# Altium integrated library Infineon_Power_MOSFET.IntLib: 1448 symbols (part 2 of 47)
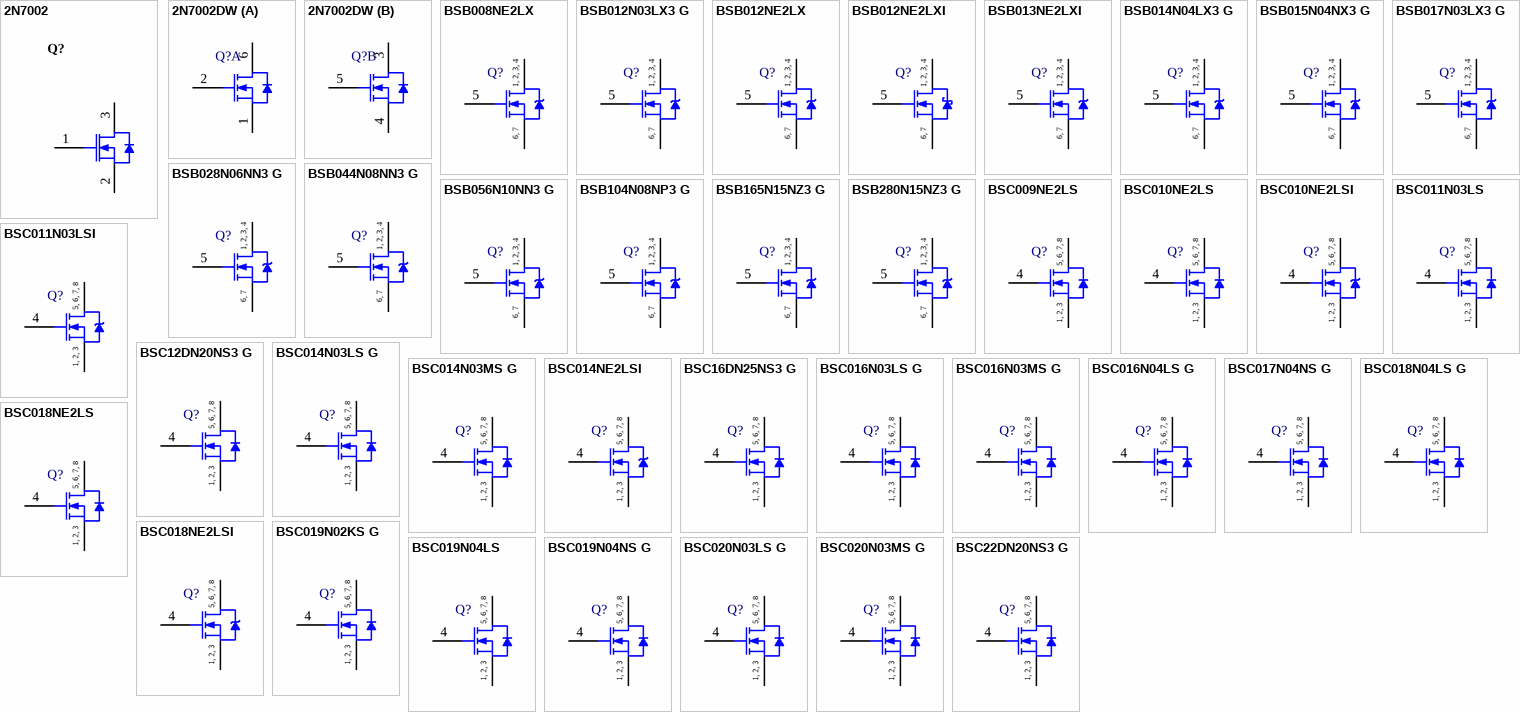
[diagram p38: symbols 2N7002 to BSC22DN20NS3 G]

## BSC018NE2LSI
designator Q?
N-Channel OptiMOS Power-MOSFET, 25 V VDS, 100 A ID, -55 to 150 degC, PG-TDSON-8-1, Reel, Green; Manufacturer: Infineon; PartNumber: BSC018NE2LSI; Green: TRUE; ID (max): 100 A; IDpuls (max): 400 A; Polarity: N; Ptot (max): 69 W; QG: 17 nC; RDS (on) (max): 1.8 mOhm; RDS (on) (max) (@4.5V): 2.4 mOhm; Rth: 1.8 K/W; RthJA (max): 50 K/W; VDS (max): 25 V; VGS(th) (max): 2.2 V; VGS(th) (min): 1 V; DatasheetVersion: Rev. 2.2; PackageReference: PG-TDSON-8-1; PackageDescription: 8-Pin Plastic (Green) Thin Dual Small Outline Non-Leaded Package, 5.15 x 5.9 mm Body, 1.27 mm Pitch; Supplier 1: Digi-Key; Supplier Part Number 1: BSC018NE2LSITR-ND; Supplier 2: Digi-Key; Supplier Part Number 2: BSC018NE2LSICT-ND; Supplier 3: Digi-Key; Supplier Part Number 3: BSC018NE2LSIDKR-ND; Halogen-free: TRUE; Packing: Reel; RthJC (max): 1.8 K/W; Mounting Technology: Surface Mount; ComponentLink1Description: Manufacturer URL; ComponentLink1URL: http://www.infineon.com/; ComponentLink2Description: Datasheet; ComponentLink2URL: http://www.infineon.com/dgdl/BSC018NE2LSI_Rev+2.2_.pdf?folderId=db3a304313b8b5a60113cee8763b02d7&fileId=db3a30433072cd8f013093b8abf971c2; ComponentLink3Description: Package Specification; ComponentLink3URL: http://www.infineon.com/cms/packages/SMD_-_Surface_Mounted_Devices/P-PG-TDSON/P-PG-TDSON-08-01x_2x_3.html?__locale=en
footprint INF-PG-TDSON-8-1_V (TDSON, 8-Leads, Body 6.15x5.15mm, Pitch 1.27mm)
pins: 1 SOURCE, 2 SOURCE, 3 SOURCE, 4 GATE, 5 DRAIN, 6 DRAIN, 7 DRAIN, 8 DRAIN
text: 5, 6, 7, 8; 1, 2, 3

## BSC019N02KS G
designator Q?
N-Channel OptiMOS 2 Power-Transistor, 20 V VDS, 100 A ID, -55 to 150 degC, PG-TDSON-8-1, Reel, Green; Manufacturer: Infineon; PartNumber: BSC019N02KS G; Green: TRUE; ID (max): 100 A; IDpuls (max): 200 A; Polarity: N; Ptot (max): 104 W; QG: 64 nC; RDS (on) (max): 1.95 mOhm; Rth: 1.2 K/W; RthJA (max): 45 K/W; VDS (max): 20 V; VGS(th) (max): 1.2 V; VGS(th) (min): 0.7 V; DatasheetVersion: Rev. 1.41; PackageReference: PG-TDSON-8-1; PackageDescription: 8-Pin Plastic (Green) Thin Dual Small Outline Non-Leaded Package, 5.15 x 5.9 mm Body, 1.27 mm Pitch; Supplier 1: Mouser; Supplier Part Number 1: 726-BSC019N02KSG; Supplier 2: Digi-Key; Supplier Part Number 2: BSC019N02KS G-ND; Halogen-free: TRUE; Packing: Reel; RDS (on) (max) (@4.5V): 1.95 mOhm; RthJC (max): 1.2 K/W; Mounting Technology: Surface Mount; ComponentLink1Description: Manufacturer URL; ComponentLink1URL: http://www.infineon.com/; ComponentLink2Description: Datasheet; ComponentLink2URL: http://www.infineon.com/dgdl/BSC019N02KS+G+Rev1.41.pdf?folderId=db3a3043163797a6011637c0dc9c0001&fileId=db3a3043163797a6011637c16cdf0002; ComponentLink3Description: Package Specification; ComponentLink3URL: http://www.infineon.com/cms/packages/SMD_-_Surface_Mounted_Devices/P-PG-TDSON/P-PG-TDSON-08-01x_2x_3.html?__locale=en
footprint INF-PG-TDSON-8-1_V (TDSON, 8-Leads, Body 6.15x5.15mm, Pitch 1.27mm)
pins: 1 SOURCE, 2 SOURCE, 3 SOURCE, 4 GATE, 5 DRAIN, 6 DRAIN, 7 DRAIN, 8 DRAIN
text: 5, 6, 7, 8; 1, 2, 3

## BSC019N04LS
designator Q?
N-Channel OptiMOS(TM) Power-MOSFET, 40 V VDS, 100 A ID, -55 to 150 degC, PG-TDSON-8, Reel, Green; Manufacturer: Infineon; PartNumber: BSC019N04LS; Green: TRUE; ID (max): 100 A; IDpuls (max): 400 A; Polarity: N; Ptot (max): 78 W; QG: 41 nc; RDS (on) (max): 1.9 mOhm; RDS (on) (max) (@4.5V): 2.7 mOhm; RthJA (max): 50 K/W; RthJC (max): 1.6 K/W; VDS (max): 40 V; VGS(th) (max): 2 V; VGS(th) (min): 1.2 V; DatasheetVersion: Rev. 2.0; PackageVersion: Rev. 04, 04/2013; PackageReference: PG-TDSON-8-04; PackageDescription: 8-Pin Plastic (Green) Thin Dual Small Outline Non-Leaded Package, 5.9 x 5.15 mm Body, 1.27 mm Pitch; Supplier 1: Mouser; Supplier Part Number 1: N/A; Halogen-free: TRUE; Mounting: SMD; Packing: Reel; Technology: OptiMOS(TM); Mounting Technology: Surface Mount; ComponentLink1Description: Manufacturer URL; ComponentLink1URL: http://www.infineon.com/; ComponentLink2Description: Datasheet; ComponentLink2URL: http://www.infineon.com/dgdl/BSC019N04LS_rev2.0.pdf?folderId=db3a304313b8b5a60113cee8763b02d7&fileId=db3a304342371bb001424b8aca0c6fc4; ComponentLink3Description: Package Specification; ComponentLink3URL: http://www.infineon.com/dgdl/BSC019N04LS_rev2.0.pdf?folderId=db3a304313b8b5a60113cee8763b02d7&fileId=db3a304342371bb001424b8aca0c6fc4
footprint INF-PG-TDSON-8-04_V (SON, 8-Leads, Body 5.9x5.15mm, Pitch 1.27mm)
pins: 1 SOURCE, 2 SOURCE, 3 SOURCE, 4 GATE, 5 DRAIN, 6 DRAIN, 7 DRAIN, 8 DRAIN
text: 5, 6, 7, 8; 1, 2, 3

## BSC019N04NS G
designator Q?
N-Channel OptiMOS 3 Power-Transistor, 40 V VDS, 100 A ID, -55 to 150 degC, PG-TDSON-8-1, Reel, Green; Manufacturer: Infineon; PartNumber: BSC019N04NS G; Green: TRUE; ID (max): 100 A; IDpuls (max): 400 A; Polarity: N; Ptot (max): 125 W; QG: 84 nC; RDS (on) (max): 1.9 mOhm; Rth: 1 K/W; RthJA (max): 50 K/W; VDS (max): 40 V; VGS(th) (max): 4 V; VGS(th) (min): 2 V; DatasheetVersion: Rev. 1.4; PackageReference: PG-TDSON-8-1; PackageDescription: 8-Pin Plastic (Green) Thin Dual Small Outline Non-Leaded Package, 5.15 x 5.9 mm Body, 1.27 mm Pitch; Supplier 1: Mouser; Supplier Part Number 1: 726-BSC019N04NSG; Supplier 2: Digi-Key; Supplier Part Number 2: BSC019N04NS GTR-ND; Supplier 3: Digi-Key; Supplier Part Number 3: BSC019N04NS GCT-ND; Supplier 4: Digi-Key; Supplier Part Number 4: BSC019N04NS GDKR-ND; Halogen-free: TRUE; Packing: Reel; RthJC (max): 1 K/W; Mounting Technology: Surface Mount; ComponentLink1Description: Manufacturer URL; ComponentLink1URL: http://www.infineon.com/; ComponentLink2Description: Datasheet; ComponentLink2URL: http://www.infineon.com/dgdl/BSC019N04NSG_rev1.4.pdf?folderId=db3a3043156fd5730115c7d50620107c&fileId=db3a30431689f4420116c45be78a0832; ComponentLink3Description: Package Specification; ComponentLink3URL: http://www.infineon.com/cms/packages/SMD_-_Surface_Mounted_Devices/P-PG-TDSON/P-PG-TDSON-08-01x_2x_3.html?__locale=en
footprint INF-PG-TDSON-8-1_V (TDSON, 8-Leads, Body 6.15x5.15mm, Pitch 1.27mm)
pins: 1 SOURCE, 2 SOURCE, 3 SOURCE, 4 GATE, 5 DRAIN, 6 DRAIN, 7 DRAIN, 8 DRAIN
text: 5, 6, 7, 8; 1, 2, 3

## BSC020N03LS G
designator Q?
N-Channel OptiMOS 3 Power-MOSFET, 30 V VDS, 100 A ID, -55 to 150 degC, PG-TDSON-8-1, Reel, Green; Manufacturer: Infineon; PartNumber: BSC020N03LS G; Green: TRUE; ID (max): 100 A; IDpuls (max): 400 A; Polarity: N; Ptot (max): 96 W; QG: 34 nC; RDS (on) (max): 2 mOhm; RDS (on) (max) (@4.5V): 2.9 mOhm; Rth: 1.3 K/W; RthJA (max): 50 K/W; VDS (max): 30 V; VGS(th) (max): 2.2 V; VGS(th) (min): 1 V; DatasheetVersion: Rev. 1.27; PackageReference: PG-TDSON-8-1; PackageDescription: 8-Pin Plastic (Green) Thin Dual Small Outline Non-Leaded Package, 5.15 x 5.9 mm Body, 1.27 mm Pitch; Supplier 1: Mouser; Supplier Part Number 1: 726-BSC020N03LSG; Supplier 2: Digi-Key; Supplier Part Number 2: BSC020N03LS GTR-ND; Supplier 3: Digi-Key; Supplier Part Number 3: BSC020N03LS GCT-ND; Supplier 4: Digi-Key; Supplier Part Number 4: BSC020N03LS GDKR-ND; Halogen-free: TRUE; Packing: Reel; RthJC (max): 1.3 K/W; Mounting Technology: Surface Mount; ComponentLink1Description: Manufacturer URL; ComponentLink1URL: http://www.infineon.com/; ComponentLink2Description: Datasheet; ComponentLink2URL: http://www.infineon.com/dgdl/BSC020N03LS_rev1.27.pdf?folderId=db3a304412b407950112b408e8c90004&fileId=db3a304412b407950112b427641b3c1f; ComponentLink3Description: Package Specification; ComponentLink3URL: http://www.infineon.com/cms/packages/SMD_-_Surface_Mounted_Devices/P-PG-TDSON/P-PG-TDSON-08-01x_2x_3.html?__locale=en
footprint INF-PG-TDSON-8-1_V (TDSON, 8-Leads, Body 6.15x5.15mm, Pitch 1.27mm)
pins: 1 SOURCE, 2 SOURCE, 3 SOURCE, 4 GATE, 5 DRAIN, 6 DRAIN, 7 DRAIN, 8 DRAIN
text: 5, 6, 7, 8; 1, 2, 3

## BSC020N03MS G
designator Q?
N-Channel OptiMOS 3 M-Series Power-MOSFET, 30 V VDS, 100 A ID, -55 to 150 degC, PG-TDSON-8-1, Reel, Green; Manufacturer: Infineon; PartNumber: BSC020N03MS G; Green: TRUE; ID (max): 100 A; IDpuls (max): 400 A; Polarity: N; Ptot (max): 96 W; QG: 45 nC; RDS (on) (max): 2 mOhm; RDS (on) (max) (@4.5V): 2.5 mOhm; Rth: 1.3 K/W; RthJA (max): 50 K/W; VDS (max): 30 V; VGS(th) (max): 2 V; VGS(th) (min): 1 V; DatasheetVersion: Rev. 1.16; PackageReference: PG-TDSON-8-1; PackageDescription: 8-Pin Plastic (Green) Thin Dual Small Outline Non-Leaded Package, 5.15 x 5.9 mm Body, 1.27 mm Pitch; Supplier 1: Mouser; Supplier Part Number 1: 726-BSC020N03MSG; Supplier 2: Newark; Supplier Part Number 2: 60R2480; Supplier 3: Farnell; Supplier Part Number 3: 1775430; Supplier 4: Digi-Key; Supplier Part Number 4: BSC020N03MSGINTR-ND; Supplier 5: Digi-Key; Supplier Part Number 5: BSC020N03MSGINCT-ND; Supplier 6: Digi-Key; Supplier Part Number 6: BSC020N03MSGINDKR-ND; Halogen-free: TRUE; Packing: Reel; RthJC (max): 1.3 K/W; Mounting Technology: Surface Mount; ComponentLink1Description: Manufacturer URL; ComponentLink1URL: http://www.infineon.com/; ComponentLink2Description: Datasheet; ComponentLink2URL: http://www.infineon.com/dgdl/BSC020N03MSG_rev1.16.pdf?folderId=db3a304313d846880113d91d60c500c4&fileId=db3a304313d846880113de4cd99d033e; ComponentLink3Description: Package Specification; ComponentLink3URL: http://www.infineon.com/cms/packages/SMD_-_Surface_Mounted_Devices/P-PG-TDSON/P-PG-TDSON-08-01x_2x_3.html?__locale=en
footprint INF-PG-TDSON-8-1_V (TDSON, 8-Leads, Body 6.15x5.15mm, Pitch 1.27mm)
pins: 1 SOURCE, 2 SOURCE, 3 SOURCE, 4 GATE, 5 DRAIN, 6 DRAIN, 7 DRAIN, 8 DRAIN
text: 5, 6, 7, 8; 1, 2, 3

## BSC22DN20NS3 G
designator Q?
N-Channel OptiMOS 3 Power-Transistor, 200 V VDS, 7 A ID, -55 to 150 degC, PG-TDSON-8-1, Reel, Green; Manufacturer: Infineon; PartNumber: BSC22DN20NS3 G; Green: TRUE; ID (max): 7 A; IDpuls (max): 28 A; Polarity: N; Ptot (max): 34 W; QG: 4.2 nC; RDS (on) (max): 225 mOhm; Rth: 3.7 K/W; RthJA (max): 50 K/W; RthJC (max): 3.7 K/W; VDS (max): 200 V; VGS(th) (max): 4 V; VGS(th) (min): 2 V; DatasheetVersion: Rev. 2.2; PackageReference: PG-TDSON-8-1; PackageDescription: 8-Pin Plastic (Green) Thin Dual Small Outline Non-Leaded Package, 5.15 x 5.9 mm Body, 1.27 mm Pitch; Supplier 1: Mouser; Supplier Part Number 1: 726-BSC22DN20NS3G; Supplier 2: Digi-Key; Supplier Part Number 2: BSC22DN20NS3 GTR-ND; Supplier 3: Digi-Key; Supplier Part Number 3: BSC22DN20NS3 GCT-ND; Supplier 4: Digi-Key; Supplier Part Number 4: BSC22DN20NS3 GDKR-ND; Halogen-free: TRUE; Packing: Reel; Mounting Technology: Surface Mount; ComponentLink1Description: Manufacturer URL; ComponentLink1URL: http://www.infineon.com/; ComponentLink2Description: Datasheet; ComponentLink2URL: http://www.infineon.com/dgdl/BSC22DN20NS3+Rev2.2.pdf?folderId=db3a304325305e6d012596c6ca7b290a&fileId=db3a30432ad629a6012b1582d2df1a48; ComponentLink3Description: Package Specification; ComponentLink3URL: http://www.infineon.com/cms/packages/SMD_-_Surface_Mounted_Devices/P-PG-TDSON/P-PG-TDSON-08-01x_2x_3.html?__locale=en
footprint INF-PG-TDSON-8-1_V (TDSON, 8-Leads, Body 6.15x5.15mm, Pitch 1.27mm)
pins: 1 SOURCE, 2 SOURCE, 3 SOURCE, 4 GATE, 5 DRAIN, 6 DRAIN, 7 DRAIN, 8 DRAIN
text: 5, 6, 7, 8; 1, 2, 3

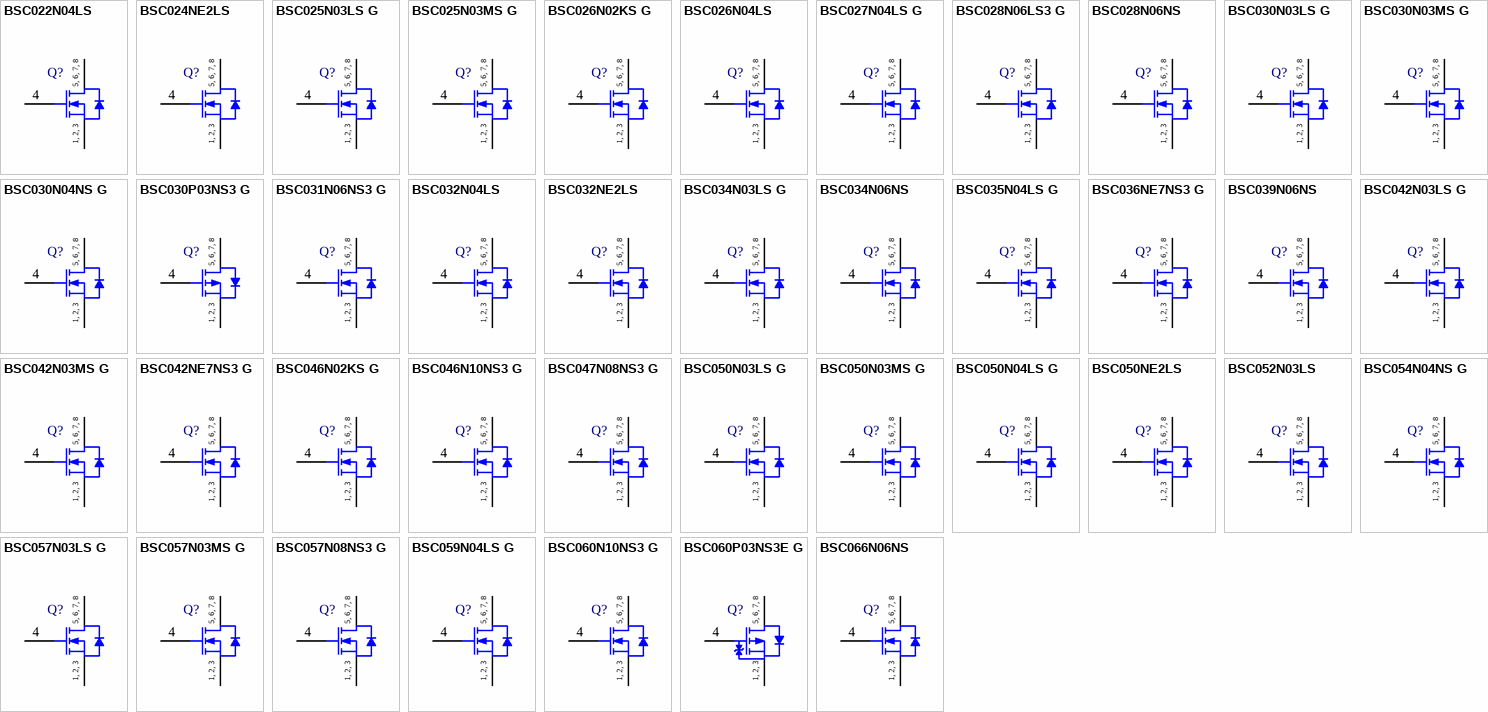
[diagram p1: symbols BSC022N04LS to BSC066N06NS]

## BSC022N04LS
designator Q?
N-Channel OptiMOS(TM) Power-MOSFET, 40 V VDS, 100 A ID, -55 to 150 degC, PG-TDSON-8, Reel, Green; Manufacturer: Infineon; PartNumber: BSC022N04LS; Green: TRUE; ID (max): 100 A; IDpuls (max): 400 A; Polarity: N; Ptot (max): 69 W; QG: 37 nc; RDS (on) (max): 2.2 mOhm; RDS (on) (max) (@4.5V): 3.2 mOhm; RthJA (max): 50 K/W; RthJC (max): 1.8 K/W; VDS (max): 40 V; VGS(th) (max): 2 V; VGS(th) (min): 1.2 V; DatasheetVersion: Rev. 2.0; PackageReference: PG-TDSON-8-1; PackageDescription: 8-Pin Plastic (Green) Thin Dual Small Outline Non-Leaded Package, 5.15 x 5.9 mm Body, 1.27 mm Pitch; Supplier 1: Mouser; Supplier Part Number 1: N/A; Halogen-free: TRUE; Mounting: SMD; Packing: Reel; Technology: OptiMOS(TM); Mounting Technology: Surface Mount; ComponentLink1Description: Manufacturer URL; ComponentLink1URL: http://www.infineon.com/; ComponentLink2Description: Datasheet; ComponentLink2URL: http://www.infineon.com/dgdl/BSC022N04LS_rev2.0.pdf?folderId=db3a3043163797a6011637d4bae7003b&fileId=db3a30433e82b1cf013e8454ca6c03c9; ComponentLink3Description: Package Specification; ComponentLink3URL: http://www.infineon.com/cms/packages/SMD_-_Surface_Mounted_Devices/P-PG-TDSON/P-PG-TDSON-08-01x_2x_3.html?__locale=en
footprint INF-PG-TDSON-8-1_V (TDSON, 8-Leads, Body 6.15x5.15mm, Pitch 1.27mm)
pins: 1 SOURCE, 2 SOURCE, 3 SOURCE, 4 GATE, 5 DRAIN, 6 DRAIN, 7 DRAIN, 8 DRAIN
text: 5, 6, 7, 8; 1, 2, 3

## BSC024NE2LS
designator Q?
N-Channel OptiMOS Power-MOSFET, 25 V VDS, 100 A ID, -55 to 150 degC, PG-TDSON-8-1, Reel, Green; Manufacturer: Infineon; PartNumber: BSC024NE2LS; Green: TRUE; ID (max): 100 A; IDpuls (max): 400 A; Polarity: N; Ptot (max): 48 W; QG: 23 nC; RDS (on) (max): 2.4 mOhm; RDS (on) (max) (@4.5V): 3.4 mOhm; Rth: 2.6 K/W; RthJA (max): 50 K/W; RthJC (max): 2.6 K/W; VDS (max): 25 V; VGS(th) (max): 2 V; VGS(th) (min): 1.2 V; DatasheetVersion: Rev. 2.1; PackageReference: PG-TDSON-8-1; PackageDescription: 8-Pin Plastic (Green) Thin Dual Small Outline Non-Leaded Package, 5.15 x 5.9 mm Body, 1.27 mm Pitch; Supplier 1: Mouser; Supplier Part Number 1: 726-BSC024NE2LS; Supplier 2: Digi-Key; Supplier Part Number 2: BSC024NE2LSTR-ND; Supplier 3: Digi-Key; Supplier Part Number 3: BSC024NE2LSCT-ND; Supplier 4: Digi-Key; Supplier Part Number 4: BSC024NE2LSDKR-ND; Halogen-free: TRUE; Packing: Reel; Mounting Technology: Surface Mount; ComponentLink1Description: Manufacturer URL; ComponentLink1URL: http://www.infineon.com/; ComponentLink2Description: Datasheet; ComponentLink2URL: http://www.infineon.com/dgdl/BSC024NE2LS_Rev+2.1.pdf?folderId=db3a304313b8b5a60113cee8763b02d7&fileId=db3a30432c64a60d012ca76f4fe52f6b; ComponentLink3Description: Package Specification; ComponentLink3URL: http://www.infineon.com/cms/packages/SMD_-_Surface_Mounted_Devices/P-PG-TDSON/P-PG-TDSON-08-01x_2x_3.html?__locale=en
footprint INF-PG-TDSON-8-1_V (TDSON, 8-Leads, Body 6.15x5.15mm, Pitch 1.27mm)
pins: 1 SOURCE, 2 SOURCE, 3 SOURCE, 4 GATE, 5 DRAIN, 6 DRAIN, 7 DRAIN, 8 DRAIN
text: 5, 6, 7, 8; 1, 2, 3

## BSC025N03LS G
designator Q?
N-Channel OptiMOS 3 Power-MOSFET, 30 V VDS, 100 A ID, -55 to 150 degC, PG-TDSON-8-1, Reel, Green; Manufacturer: Infineon; PartNumber: BSC025N03LS G; Green: TRUE; ID (max): 100 A; IDpuls (max): 400 A; Polarity: N; Ptot (max): 83 W; QG: 27 nC; RDS (on) (max): 2.5 mOhm; RDS (on) (max) (@4.5V): 3.6 mOhm; Rth: 1.5 K/W; RthJA (max): 50 K/W; VDS (max): 30 V; VGS(th) (max): 2.2 V; VGS(th) (min): 1 V; DatasheetVersion: Rev. 1.6; PackageReference: PG-TDSON-8-1; PackageDescription: 8-Pin Plastic (Green) Thin Dual Small Outline Non-Leaded Package, 5.15 x 5.9 mm Body, 1.27 mm Pitch; Supplier 1: Mouser; Supplier Part Number 1: 726-BSC025N03LSG; Supplier 2: Newark; Supplier Part Number 2: 47W3308; Supplier 3: Farnell; Supplier Part Number 3: 2212826; Supplier 4: Digi-Key; Supplier Part Number 4: BSC025N03LSGINTR-ND; Supplier 5: Digi-Key; Supplier Part Number 5: BSC025N03LSGINCT-ND; Supplier 6: Digi-Key; Supplier Part Number 6: BSC025N03LSGINDKR-ND; Halogen-free: TRUE; Packing: Reel; RthJC (max): 1.5 K/W; Mounting Technology: Surface Mount; ComponentLink1Description: Manufacturer URL; ComponentLink1URL: http://www.infineon.com/; ComponentLink2Description: Datasheet; ComponentLink2URL: http://www.infineon.com/dgdl/BSC025N03LS_rev1.6.pdf?folderId=db3a304412b407950112b408e8c90004&fileId=db3a304412b407950112b4274ff53bff; ComponentLink3Description: Package Specification; ComponentLink3URL: http://www.infineon.com/cms/packages/SMD_-_Surface_Mounted_Devices/P-PG-TDSON/P-PG-TDSON-08-01x_2x_3.html?__locale=en
footprint INF-PG-TDSON-8-1_V (TDSON, 8-Leads, Body 6.15x5.15mm, Pitch 1.27mm)
pins: 1 SOURCE, 2 SOURCE, 3 SOURCE, 4 GATE, 5 DRAIN, 6 DRAIN, 7 DRAIN, 8 DRAIN
text: 5, 6, 7, 8; 1, 2, 3

## BSC025N03MS G
designator Q?
N-Channel OptiMOS 3 M-Series Power-MOSFET, 30 V VDS, 100 A ID, -55 to 150 degC, PG-TDSON-8-1, Reel, Green; Manufacturer: Infineon; PartNumber: BSC025N03MS G; Green: TRUE; ID (max): 100 A; IDpuls (max): 400 A; Polarity: N; Ptot (max): 83 W; QG: 36 nC; RDS (on) (max): 2.5 mOhm; RDS (on) (max) (@4.5V): 3 mOhm; Rth: 1.5 K/W; RthJA (max): 50 K/W; VDS (max): 30 V; VGS(th) (max): 2 V; VGS(th) (min): 1 V; DatasheetVersion: Rev. 1.15; PackageReference: PG-TDSON-8-1; PackageDescription: 8-Pin Plastic (Green) Thin Dual Small Outline Non-Leaded Package, 5.15 x 5.9 mm Body, 1.27 mm Pitch; Supplier 1: Mouser; Supplier Part Number 1: 726-BSC025N03MSG; Supplier 2: Newark; Supplier Part Number 2: 60R2482; Supplier 3: Farnell; Supplier Part Number 3: 1775433; Supplier 4: Digi-Key; Supplier Part Number 4: BSC025N03MSGINTR-ND; Supplier 5: Digi-Key; Supplier Part Number 5: BSC025N03MSGINCT-ND; Supplier 6: Digi-Key; Supplier Part Number 6: BSC025N03MSGINDKR-ND; Halogen-free: TRUE; Packing: Reel; RthJC (max): 1.5 K/W; Mounting Technology: Surface Mount; ComponentLink1Description: Manufacturer URL; ComponentLink1URL: http://www.infineon.com/; ComponentLink2Description: Datasheet; ComponentLink2URL: http://www.infineon.com/dgdl/BSC025N03MSG_rev1.15.pdf?folderId=db3a304313d846880113d91d60c500c4&fileId=db3a304313d846880113de52b02d034c; ComponentLink3Description: Package Specification; ComponentLink3URL: http://www.infineon.com/cms/packages/SMD_-_Surface_Mounted_Devices/P-PG-TDSON/P-PG-TDSON-08-01x_2x_3.html?__locale=en
footprint INF-PG-TDSON-8-1_V (TDSON, 8-Leads, Body 6.15x5.15mm, Pitch 1.27mm)
pins: 1 SOURCE, 2 SOURCE, 3 SOURCE, 4 GATE, 5 DRAIN, 6 DRAIN, 7 DRAIN, 8 DRAIN
text: 5, 6, 7, 8; 1, 2, 3

## BSC026N02KS G
designator Q?
N-Channel OptiMOS 2 Power-Transistor, 20 V VDS, 100 A ID, -55 to 150 degC, PG-TDSON-8-1, Reel, Green; Manufacturer: Infineon; PartNumber: BSC026N02KS G; Green: TRUE; ID (max): 100 A; IDpuls (max): 200 A; Polarity: N; Ptot (max): 78 W; QG: 40 nC; RDS (on) (max): 2.6 mOhm; Rth: 1.6 K/W; RthJA (max): 62 K/W; VDS (max): 20 V; VGS(th) (max): 1.2 V; VGS(th) (min): 0.7 V; DatasheetVersion: Rev. 1.06; PackageReference: PG-TDSON-8-1; PackageDescription: 8-Pin Plastic (Green) Thin Dual Small Outline Non-Leaded Package, 5.15 x 5.9 mm Body, 1.27 mm Pitch; Supplier 1: Mouser; Supplier Part Number 1: 726-BSC026N02KSG; Supplier 2: Newark; Supplier Part Number 2: 60R2483; Supplier 3: Farnell; Supplier Part Number 3: 1775434; Supplier 4: Digi-Key; Supplier Part Number 4: BSC026N02KS GTR-ND; Supplier 5: Digi-Key; Supplier Part Number 5: BSC026N02KS GCT-ND; Supplier 6: Digi-Key; Supplier Part Number 6: BSC026N02KS GDKR-ND; Halogen-free: TRUE; Packing: Reel; RDS (on) (max) (@4.5V): 2.6 mOhm; RthJC (max): 1.6 K/W; Mounting Technology: Surface Mount; ComponentLink1Description: Manufacturer URL; ComponentLink1URL: http://www.infineon.com/; ComponentLink2Description: Datasheet; ComponentLink2URL: http://www.infineon.com/dgdl/BSC026N02KS+G+Rev16.pdf?folderId=db3a3043163797a6011637c252b10018&fileId=db3a3043163797a6011637c2a4280019; ComponentLink3Description: Package Specification; ComponentLink3URL: http://www.infineon.com/cms/packages/SMD_-_Surface_Mounted_Devices/P-PG-TDSON/P-PG-TDSON-08-01x_2x_3.html?__locale=en
footprint INF-PG-TDSON-8-1_V (TDSON, 8-Leads, Body 6.15x5.15mm, Pitch 1.27mm)
pins: 1 SOURCE, 2 SOURCE, 3 SOURCE, 4 GATE, 5 DRAIN, 6 DRAIN, 7 DRAIN, 8 DRAIN
text: 5, 6, 7, 8; 1, 2, 3

## BSC026N04LS
designator Q?
N-Channel OptiMOS(TM) Power-MOSFET, 40 V VDS, 100 A ID, -55 to 150 degC, PG-TDSON-8, Reel, Green; Manufacturer: Infineon; PartNumber: BSC026N04LS; Green: TRUE; ID (max): 100 A; IDpuls (max): 400 A; Polarity: N; Ptot (max): 63 W; QG: 32 nc; RDS (on) (max): 2.6 mOhm; RDS (on) (max) (@4.5V): 3.6 mOhm; RthJA (max): 50 K/W; RthJC (max): 2 K/W; VDS (max): 40 V; VGS(th) (max): 2 V; VGS(th) (min): 1.2 V; DatasheetVersion: Rev. 2.0; PackageReference: PG-TDSON-8-1; PackageDescription: 8-Pin Plastic (Green) Thin Dual Small Outline Non-Leaded Package, 5.15 x 5.9 mm Body, 1.27 mm Pitch; Supplier 1: Mouser; Supplier Part Number 1: N/A; Halogen-free: TRUE; Mounting: SMD; Packing: Reel; Technology: OptiMOS(TM); Mounting Technology: Surface Mount; ComponentLink1Description: Manufacturer URL; ComponentLink1URL: http://www.infineon.com/; ComponentLink2Description: Datasheet; ComponentLink2URL: http://www.infineon.com/dgdl/BSC026N04LS_rev2.0.pdf?folderId=db3a304313b8b5a60113cee8763b02d7&fileId=db3a3043410d6ee40141127f49e92b5d; ComponentLink3Description: Package Specification; ComponentLink3URL: http://www.infineon.com/cms/packages/SMD_-_Surface_Mounted_Devices/P-PG-TDSON/P-PG-TDSON-08-01x_2x_3.html?__locale=en
footprint INF-PG-TDSON-8-1_V (TDSON, 8-Leads, Body 6.15x5.15mm, Pitch 1.27mm)
pins: 1 SOURCE, 2 SOURCE, 3 SOURCE, 4 GATE, 5 DRAIN, 6 DRAIN, 7 DRAIN, 8 DRAIN
text: 5, 6, 7, 8; 1, 2, 3

## BSC027N04LS G
designator Q?
N-Channel OptiMOS 3 Power-Transistor, 40 V VDS, 100 A ID, -55 to 150 degC, PG-TDSON-8-1, Reel, Green; Manufacturer: Infineon; PartNumber: BSC027N04LS G; Green: TRUE; ID (max): 100 A; IDpuls (max): 400 A; Polarity: N; Ptot (max): 83 W; QG: 31 nC; RDS (on) (max): 2.7 mOhm; RDS (on) (max) (@4.5V): 4.1 mOhm; Rth: 1.5 K/W; RthJA (max): 50 K/W; VDS (max): 40 V; VGS(th) (max): 2 V; VGS(th) (min): 1.2 V; DatasheetVersion: Rev. 1.04; PackageReference: PG-TDSON-8-1; PackageDescription: 8-Pin Plastic (Green) Thin Dual Small Outline Non-Leaded Package, 5.15 x 5.9 mm Body, 1.27 mm Pitch; Supplier 1: Mouser; Supplier Part Number 1: 726-BSC027N04LSG; Supplier 2: Farnell; Supplier Part Number 2: 1775435; Supplier 3: Digi-Key; Supplier Part Number 3: BSC027N04LS GTR-ND; Supplier 4: Digi-Key; Supplier Part Number 4: BSC027N04LS GCT-ND; Supplier 5: Digi-Key; Supplier Part Number 5: BSC027N04LS GDKR-ND; Halogen-free: TRUE; Packing: Reel; RthJC (max): 1.5 K/W; Mounting Technology: Surface Mount; ComponentLink1Description: Manufacturer URL; ComponentLink1URL: http://www.infineon.com/; ComponentLink2Description: Datasheet; ComponentLink2URL: http://www.infineon.com/dgdl/BSC027N04LSG_rev14.pdf?folderId=db3a3043156fd5730115c7d50620107c&fileId=db3a30431689f4420116c4323646080c; ComponentLink3Description: Package Specification; ComponentLink3URL: http://www.infineon.com/cms/packages/SMD_-_Surface_Mounted_Devices/P-PG-TDSON/P-PG-TDSON-08-01x_2x_3.html?__locale=en
footprint INF-PG-TDSON-8-1_V (TDSON, 8-Leads, Body 6.15x5.15mm, Pitch 1.27mm)
pins: 1 SOURCE, 2 SOURCE, 3 SOURCE, 4 GATE, 5 DRAIN, 6 DRAIN, 7 DRAIN, 8 DRAIN
text: 5, 6, 7, 8; 1, 2, 3

## BSC028N06LS3 G
designator Q?
N-Channel OptiMOS 3 Power-Transistor, 60 V VDS, 100 A ID, -55 to 150 degC, PG-TDSON-8-1, Reel, Green; Manufacturer: Infineon; PartNumber: BSC028N06LS3 G; Green: TRUE; ID (max): 100 A; IDpuls (max): 400 A; Polarity: N; Ptot (max): 139 W; QG: 59 nC; RDS (on) (max): 2.8 mOhm; RDS (on) (max) (@4.5V): 4.8 mOhm; Rth: 0.9 K/W; RthJA (max): 62 K/W; VDS (max): 60 V; VGS(th) (max): 2.2 V; VGS(th) (min): 1.2 V; DatasheetVersion: Rev. 2.2; PackageReference: PG-TDSON-8-1; PackageDescription: 8-Pin Plastic (Green) Thin Dual Small Outline Non-Leaded Package, 5.15 x 5.9 mm Body, 1.27 mm Pitch; Supplier 1: Mouser; Supplier Part Number 1: 726-BSC028N06LS3G; Supplier 2: Newark; Supplier Part Number 2: 79X1328; Supplier 3: Farnell; Supplier Part Number 3: 2432703; Supplier 4: Digi-Key; Supplier Part Number 4: BSC028N06LS3 GTR-ND; Supplier 5: Digi-Key; Supplier Part Number 5: BSC028N06LS3 GCT-ND; Supplier 6: Digi-Key; Supplier Part Number 6: BSC028N06LS3 GDKR-ND; Halogen-free: TRUE; Packing: Reel; RthJC (max): 0.9 K/W; Mounting Technology: Surface Mount; ComponentLink1Description: Manufacturer URL; ComponentLink1URL: http://www.infineon.com/; ComponentLink2Description: Datasheet; ComponentLink2URL: http://www.infineon.com/dgdl/BSC028N06LS3_rev2.2.pdf?folderId=db3a30431ddc9372011ebafa04517f8b&fileId=db3a30431ddc9372011ebafa4c607f8c; ComponentLink3Description: Package Specification; ComponentLink3URL: http://www.infineon.com/cms/packages/SMD_-_Surface_Mounted_Devices/P-PG-TDSON/P-PG-TDSON-08-01x_2x_3.html?__locale=en
footprint INF-PG-TDSON-8-1_V (TDSON, 8-Leads, Body 6.15x5.15mm, Pitch 1.27mm)
pins: 1 SOURCE, 2 SOURCE, 3 SOURCE, 4 GATE, 5 DRAIN, 6 DRAIN, 7 DRAIN, 8 DRAIN
text: 5, 6, 7, 8; 1, 2, 3

## BSC028N06NS
designator Q?
N-Channel OptiMOS Power-Transistor, 60 V VDS, 100 A ID, -55 to 150 degC, PG-TDSON-8-1, Reel, Green; Manufacturer: Infineon; PartNumber: BSC028N06NS; Green: TRUE; ID (max): 100 A; IDpuls (max): 400 A; Polarity: N; Ptot (max): 83 W; QG: 37 nC; RDS (on) (max): 2.8 mOhm; Rth: 1.5 K/W; RthJA (max): 50 K/W; VDS (max): 60 V; VGS(th) (max): 3.3 V; VGS(th) (min): 2.1 V; DatasheetVersion: Rev. 2.1; PackageReference: PG-TDSON-8-1; PackageDescription: 8-Pin Plastic (Green) Thin Dual Small Outline Non-Leaded Package, 5.15 x 5.9 mm Body, 1.27 mm Pitch; Supplier 1: Newark; Supplier Part Number 1: 79X1329; Supplier 2: Farnell; Supplier Part Number 2: 2432704; Supplier 3: Digi-Key; Supplier Part Number 3: BSC028N06NSTR-ND; Supplier 4: Digi-Key; Supplier Part Number 4: BSC028N06NSCT-ND; Supplier 5: Digi-Key; Supplier Part Number 5: BSC028N06NSDKR-ND; Halogen-free: TRUE; Packing: Reel; RthJC (max): 1.5 K/W; Mounting Technology: Surface Mount; ComponentLink1Description: Manufacturer URL; ComponentLink1URL: http://www.infineon.com/; ComponentLink2Description: Datasheet; ComponentLink2URL: http://www.infineon.com/dgdl/BSC028N06NS_Rev2.1.pdf?folderId=db3a30431ddc9372011ebafa04517f8b&fileId=db3a3043345a30bc013465d221bd62f9; ComponentLink3Description: Package Specification; ComponentLink3URL: http://www.infineon.com/cms/packages/SMD_-_Surface_Mounted_Devices/P-PG-TDSON/P-PG-TDSON-08-01x_2x_3.html?__locale=en
footprint INF-PG-TDSON-8-1_V (TDSON, 8-Leads, Body 6.15x5.15mm, Pitch 1.27mm)
pins: 1 SOURCE, 2 SOURCE, 3 SOURCE, 4 GATE, 5 DRAIN, 6 DRAIN, 7 DRAIN, 8 DRAIN
text: 5, 6, 7, 8; 1, 2, 3

## BSC030N03LS G
designator Q?
N-Channel OptiMOS 3 Power-MOSFET, 30 V VDS, 100 A ID, -55 to 150 degC, PG-TDSON-8-1, Reel, Green; Manufacturer: Infineon; PartNumber: BSC030N03LS G; Green: TRUE; ID (max): 100 A; IDpuls (max): 400 A; Polarity: N; Ptot (max): 69 W; QG: 20 nC; RDS (on) (max): 3 mOhm; RDS (on) (max) (@4.5V): 4.7 mOhm; Rth: 1.8 K/W; RthJA (max): 50 K/W; VDS (max): 30 V; VGS(th) (max): 2.2 V; VGS(th) (min): 1 V; DatasheetVersion: Rev. 1.27; PackageReference: PG-TDSON-8-1; PackageDescription: 8-Pin Plastic (Green) Thin Dual Small Outline Non-Leaded Package, 5.15 x 5.9 mm Body, 1.27 mm Pitch; Supplier 1: Mouser; Supplier Part Number 1: 726-BSC030N03LS-G; Supplier 2: Newark; Supplier Part Number 2: 60R2485; Supplier 3: Farnell; Supplier Part Number 3: 1775436; Supplier 4: Digi-Key; Supplier Part Number 4: BSC030N03LS GTR-ND; Supplier 5: Digi-Key; Supplier Part Number 5: BSC030N03LS GCT-ND; Supplier 6: Digi-Key; Supplier Part Number 6: BSC030N03LS GDKR-ND; Halogen-free: TRUE; Packing: Reel; RthJC (max): 1.8 K/W; Mounting Technology: Surface Mount; ComponentLink1Description: Manufacturer URL; ComponentLink1URL: http://www.infineon.com/; ComponentLink2Description: Datasheet; ComponentLink2URL: http://www.infineon.com/dgdl/BSC030N03LS_rev1.27.pdf?folderId=db3a304412b407950112b408e8c90004&fileId=db3a304412b407950112b42766953c23; ComponentLink3Description: Package Specification; ComponentLink3URL: http://www.infineon.com/cms/packages/SMD_-_Surface_Mounted_Devices/P-PG-TDSON/P-PG-TDSON-08-01x_2x_3.html?__locale=en
footprint INF-PG-TDSON-8-1_V (TDSON, 8-Leads, Body 6.15x5.15mm, Pitch 1.27mm)
pins: 1 SOURCE, 2 SOURCE, 3 SOURCE, 4 GATE, 5 DRAIN, 6 DRAIN, 7 DRAIN, 8 DRAIN
text: 5, 6, 7, 8; 1, 2, 3

## BSC030N03MS G
designator Q?
N-Channel OptiMOS 3 M-Series Power-MOSFET, 30 V VDS, 100 A ID, -55 to 150 degC, PG-TDSON-8-1, Reel, Green; Manufacturer: Infineon; PartNumber: BSC030N03MS G; Green: TRUE; ID (max): 100 A; IDpuls (max): 400 A; Polarity: N; Ptot (max): 69 W; QG: 55 nC; RDS (on) (max): 3 mOhm; RDS (on) (max) (@4.5V): 3.8 mOhm; Rth: 1.8 K/W; RthJA (max): 50 K/W; VDS (max): 30 V; VGS(th) (max): 2 V; VGS(th) (min): 1 V; DatasheetVersion: Rev. 1.16; PackageReference: PG-TDSON-8-1; PackageDescription: 8-Pin Plastic (Green) Thin Dual Small Outline Non-Leaded Package, 5.15 x 5.9 mm Body, 1.27 mm Pitch; Supplier 1: Mouser; Supplier Part Number 1: 726-BSC030N03MSG; Supplier 2: Newark; Supplier Part Number 2: 79X1330; Supplier 3: Farnell; Supplier Part Number 3: 2432705; Supplier 4: Digi-Key; Supplier Part Number 4: BSC030N03MSGINTR-ND; Supplier 5: Digi-Key; Supplier Part Number 5: BSC030N03MSGINCT-ND; Supplier 6: Digi-Key; Supplier Part Number 6: BSC030N03MSGINDKR-ND; Halogen-free: TRUE; Packing: Reel; RthJC (max): 1.8 K/W; Mounting Technology: Surface Mount; ComponentLink1Description: Manufacturer URL; ComponentLink1URL: http://www.infineon.com/; ComponentLink2Description: Datasheet; ComponentLink2URL: http://www.infineon.com/dgdl/BSC030N03MSG_rev1.16.pdf?folderId=db3a304313d846880113d91d60c500c4&fileId=db3a304313d846880113de605dea0359; ComponentLink3Description: Package Specification; ComponentLink3URL: http://www.infineon.com/cms/packages/SMD_-_Surface_Mounted_Devices/P-PG-TDSON/P-PG-TDSON-08-01x_2x_3.html?__locale=en
footprint INF-PG-TDSON-8-1_V (TDSON, 8-Leads, Body 6.15x5.15mm, Pitch 1.27mm)
pins: 1 SOURCE, 2 SOURCE, 3 SOURCE, 4 GATE, 5 DRAIN, 6 DRAIN, 7 DRAIN, 8 DRAIN
text: 5, 6, 7, 8; 1, 2, 3

## BSC030N04NS G
designator Q?
N-Channel OptiMOS 3 Power-Transistor, 40 V VDS, 100 A ID, -55 to 150 degC, PG-TDSON-8-1, Reel, Green; Manufacturer: Infineon; PartNumber: BSC030N04NS G; Green: TRUE; ID (max): 100 A; IDpuls (max): 400 A; Polarity: N; Ptot (max): 83 W; QG: 46 nC; RDS (on) (max): 3 mOhm; Rth: 1.5 K/W; RthJA (max): 50 K/W; VDS (max): 40 V; VGS(th) (max): 4 V; VGS(th) (min): 2 V; DatasheetVersion: Rev. 1.04; PackageReference: PG-TDSON-8-1; PackageDescription: 8-Pin Plastic (Green) Thin Dual Small Outline Non-Leaded Package, 5.15 x 5.9 mm Body, 1.27 mm Pitch; Supplier 1: Mouser; Supplier Part Number 1: 726-BSC030N04NSG; Supplier 2: Farnell; Supplier Part Number 2: 1775438RL; Supplier 3: Farnell; Supplier Part Number 3: 1775438; Supplier 4: Digi-Key; Supplier Part Number 4: BSC030N04NS GTR-ND; Supplier 5: Digi-Key; Supplier Part Number 5: BSC030N04NS GCT-ND; Supplier 6: Digi-Key; Supplier Part Number 6: BSC030N04NS GDKR-ND; Halogen-free: TRUE; Packing: Reel; RthJC (max): 1.5 K/W; Mounting Technology: Surface Mount; ComponentLink1Description: Manufacturer URL; ComponentLink1URL: http://www.infineon.com/; ComponentLink2Description: Datasheet; ComponentLink2URL: http://www.infineon.com/dgdl/BSC030N04NSG_rev14.pdf?folderId=db3a3043156fd5730115c7d50620107c&fileId=db3a30431689f4420116c45f30440837; ComponentLink3Description: Package Specification; ComponentLink3URL: http://www.infineon.com/cms/packages/SMD_-_Surface_Mounted_Devices/P-PG-TDSON/P-PG-TDSON-08-01x_2x_3.html?__locale=en
footprint INF-PG-TDSON-8-1_V (TDSON, 8-Leads, Body 6.15x5.15mm, Pitch 1.27mm)
pins: 1 SOURCE, 2 SOURCE, 3 SOURCE, 4 GATE, 5 DRAIN, 6 DRAIN, 7 DRAIN, 8 DRAIN
text: 5, 6, 7, 8; 1, 2, 3

## BSC030P03NS3 G
designator Q?
P-Channel OptiMOS P3 Power-Transistor, -30 V VDS, -100 A ID, -55 to 150 degC, PG-TDSON-8-1, Reel, Green; Manufacturer: Infineon; PartNumber: BSC030P03NS3 G; Green: TRUE; ID (max): -100 A; IDpuls (max): -200 A; Pto t (max): 125 W; QG: 137 nC; RDS (on) (max): 3 mOhm; Rth: 1 K/W; VDS (max): -30 V; VGS(th) (max): -1.9 V; VGS(th) (min): -3.1 V; DatasheetVersion: Rev. 2.1; PackageReference: PG-TDSON-8-1; PackageDescription: 8-Pin Plastic (Green) Thin Dual Small Outline Non-Leaded Package, 5.15 x 5.9 mm Body, 1.27 mm Pitch; Supplier 1: Mouser; Supplier Part Number 1: 726-BSC030P03NS3G; Supplier 2: Digi-Key; Supplier Part Number 2: BSC030P03NS3 GTR-ND; Supplier 3: Digi-Key; Supplier Part Number 3: BSC030P03NS3 GCT-ND; Supplier 4: Digi-Key; Supplier Part Number 4: BSC030P03NS3 GDKR-ND; Halogen-free: TRUE; Packing: Reel; RthJC (max): 1 K/W; Mounting Technology: Surface Mount; ComponentLink1Description: Manufacturer URL; ComponentLink1URL: http://www.infineon.com/; ComponentLink2Description: Datasheet; ComponentLink2URL: http://www.infineon.com/dgdl/BSC030P03NS3+G_2.1.pdf?folderId=db3a304314dca38901154a72e3951a65&fileId=db3a30431d8a6b3c011d90d084910435; ComponentLink3Description: Package Specification; ComponentLink3URL: http://www.infineon.com/cms/packages/SMD_-_Surface_Mounted_Devices/P-PG-TDSON/P-PG-TDSON-08-01x_2x_3.html?__locale=en
footprint INF-PG-TDSON-8-1_V (TDSON, 8-Leads, Body 6.15x5.15mm, Pitch 1.27mm)
pins: 1 SOURCE, 2 SOURCE, 3 SOURCE, 4 GATE, 5 DRAIN, 6 DRAIN, 7 DRAIN, 8 DRAIN
text: 5, 6, 7, 8; 1, 2, 3

## BSC031N06NS3 G
designator Q?
N-Channel OptiMOS 3 Power-Transistor, 60 V VDS, 100 A ID, -55 to 150 degC, PG-TDSON-8-1, Reel, Green; Manufacturer: Infineon; PartNumber: BSC031N06NS3 G; Green: TRUE; ID (max): 100 A; IDpuls (max): 400 A; Polarity: N; Ptot (max): 139 W; QG: 98 nC; RDS (on) (max): 3.1 mOhm; Rth: 0.9 K/W; RthJA (max): 62 K/W; VDS (max): 60 V; VGS(th) (max): 4 V; VGS(th) (min): 2 V; DatasheetVersion: Rev. 2.3; PackageReference: PG-TDSON-8-1; PackageDescription: 8-Pin Plastic (Green) Thin Dual Small Outline Non-Leaded Package, 5.15 x 5.9 mm Body, 1.27 mm Pitch; Supplier 1: Mouser; Supplier Part Number 1: 726-BSC031N06NS3G; Supplier 2: Digi-Key; Supplier Part Number 2: BSC031N06NS3 GTR-ND; Supplier 3: Digi-Key; Supplier Part Number 3: BSC031N06NS3 GCT-ND; Supplier 4: Digi-Key; Supplier Part Number 4: BSC031N06NS3 GDKR-ND; Halogen-free: TRUE; Packing: Reel; RthJC (max): 0.9 K/W; Mounting Technology: Surface Mount; ComponentLink1Description: Manufacturer URL; ComponentLink1URL: http://www.infineon.com/; ComponentLink2Description: Datasheet; ComponentLink2URL: http://www.infineon.com/dgdl/BSC031N06NS3_Rev2.3.pdf?folderId=db3a30431ddc9372011ebafa04517f8b&fileId=db3a30431ddc9372011ebaff49fa7fa6; ComponentLink3Description: Package Specification; ComponentLink3URL: http://www.infineon.com/cms/packages/SMD_-_Surface_Mounted_Devices/P-PG-TDSON/P-PG-TDSON-08-01x_2x_3.html?__locale=en
footprint INF-PG-TDSON-8-1_V (TDSON, 8-Leads, Body 6.15x5.15mm, Pitch 1.27mm)
pins: 1 SOURCE, 2 SOURCE, 3 SOURCE, 4 GATE, 5 DRAIN, 6 DRAIN, 7 DRAIN, 8 DRAIN
text: 5, 6, 7, 8; 1, 2, 3

## BSC032N04LS
designator Q?
N-Channel OptiMOS(TM) Power-MOSFET, 40 V VDS, 98 A ID, -55 to 150 degC, PG-TDSON-8, Reel, Green; Manufacturer: Infineon; PartNumber: BSC032N04LS; Green: TRUE; ID (max): 98 A; IDpuls (max): 392 A; Polarity: N; Ptot (max): 52 W; QG: 25 nc; RDS (on) (max): 3.2 mOhm; RDS (on) (max) (@4.5V): 4.4 mOhm; RthJA (max): 50 K/W; RthJC (max): 2.4 K/W; VDS (max): 40 V; VGS(th) (max): 2 V; VGS(th) (min): 1.2 V; DatasheetVersion: Rev. 2.0; PackageVersion: Rev. 04, 04/2013; PackageReference: PG-TDSON-8-04; PackageDescription: 8-Pin Plastic (Green) Thin Dual Small Outline Non-Leaded Package, 5.9 x 5.15 mm Body, 1.27 mm Pitch; Supplier 1: Mouser; Supplier Part Number 1: N/A; Halogen-free: TRUE; Mounting: SMD; Packing: Reel; Technology: OptiMOS(TM); Mounting Technology: Surface Mount; ComponentLink1Description: Manufacturer URL; ComponentLink1URL: http://www.infineon.com/; ComponentLink2Description: Datasheet; ComponentLink2URL: http://www.infineon.com/dgdl/BSC032N04LS_rev2.0.pdf?folderId=db3a304313b8b5a60113cee8763b02d7&fileId=db3a304342371bb001424bc4f341701d; ComponentLink3Description: Package Specification; ComponentLink3URL: http://www.infineon.com/dgdl/BSC019N04LS_rev2.0.pdf?folderId=db3a304313b8b5a60113cee8763b02d7&fileId=db3a304342371bb001424b8aca0c6fc4
footprint INF-PG-TDSON-8-04_V (SON, 8-Leads, Body 5.9x5.15mm, Pitch 1.27mm)
pins: 1 SOURCE, 2 SOURCE, 3 SOURCE, 4 GATE, 5 DRAIN, 6 DRAIN, 7 DRAIN, 8 DRAIN
text: 5, 6, 7, 8; 1, 2, 3

## BSC032NE2LS
designator Q?
N-Channel OptiMOS Power-MOSFET, 25 V VDS, 84 A ID, -55 to 150 degC, PG-TDSON-8-1, Reel, Green; Manufacturer: Infineon; PartNumber: BSC032NE2LS; Green: TRUE; ID (max): 84 A; IDpuls (max): 336 A; Polarity: N; Ptot (max): 37 W; QG: 16 nC; RDS (on) (max): 3.2 mOhm; RDS (on) (max) (@4.5V): 4.8 mOhm; Rth: 3.4 K/W; RthJA (max): 50 K/W; VDS (max): 25 V; VGS(th) (max): 2 V; VGS(th) (min): 1.2 V; DatasheetVersion: Rev. 2.1; PackageReference: PG-TDSON-8-1; PackageDescription: 8-Pin Plastic (Green) Thin Dual Small Outline Non-Leaded Package, 5.15 x 5.9 mm Body, 1.27 mm Pitch; Supplier 1: Mouser; Supplier Part Number 1: 726-BSC032NE2LS; Supplier 2: Digi-Key; Supplier Part Number 2: BSC032NE2LSTR-ND; Supplier 3: Digi-Key; Supplier Part Number 3: BSC032NE2LSCT-ND; Supplier 4: Digi-Key; Supplier Part Number 4: BSC032NE2LSDKR-ND; Halogen-free: TRUE; Packing: Reel; RthJC (max): 3.4 K/W; Mounting Technology: Surface Mount; ComponentLink1Description: Manufacturer URL; ComponentLink1URL: http://www.infineon.com/; ComponentLink2Description: Datasheet; ComponentLink2URL: http://www.infineon.com/dgdl/BSC032NE2LS_Rev+2.1.pdf?folderId=db3a304313b8b5a60113cee8763b02d7&fileId=db3a30432ea425a4012ed8c328633851; ComponentLink3Description: Package Specification; ComponentLink3URL: http://www.infineon.com/cms/packages/SMD_-_Surface_Mounted_Devices/P-PG-TDSON/P-PG-TDSON-08-01x_2x_3.html?__locale=en
footprint INF-PG-TDSON-8-1_V (TDSON, 8-Leads, Body 6.15x5.15mm, Pitch 1.27mm)
pins: 1 SOURCE, 2 SOURCE, 3 SOURCE, 4 GATE, 5 DRAIN, 6 DRAIN, 7 DRAIN, 8 DRAIN
text: 5, 6, 7, 8; 1, 2, 3

## BSC034N03LS G
designator Q?
N-Channel OptiMOS 3 Power-MOSFET, 30 V VDS, 100 A ID, -55 to 150 degC, PG-TDSON-8-1, Reel, Green; Manufacturer: Infineon; PartNumber: BSC034N03LS G; Green: TRUE; ID (max): 100 A; IDpuls (max): 400 A; Polarity: N; Ptot (max): 57 W; QG: 39 nC; RDS (on) (max): 3.4 mOhm; RDS (on) (max) (@4.5V): 5.1 mOhm; Rth: 2 K/W; RthJA (max): 50 K/W; VDS (max): 30 V; VGS(th) (max): 2.2 V; VGS(th) (min): 1 V; DatasheetVersion: Rev. 1.2; PackageReference: PG-TDSON-8-1; PackageDescription: 8-Pin Plastic (Green) Thin Dual Small Outline Non-Leaded Package, 5.15 x 5.9 mm Body, 1.27 mm Pitch; Supplier 1: Mouser; Supplier Part Number 1: 726-BSC034N03LSG; Supplier 2: Digi-Key; Supplier Part Number 2: BSC034N03LS G-ND; Halogen-free: TRUE; Packing: Reel; RthJC (max): 2 K/W; Mounting Technology: Surface Mount; ComponentLink1Description: Manufacturer URL; ComponentLink1URL: http://www.infineon.com/; ComponentLink2Description: Datasheet; ComponentLink2URL: http://www.infineon.com/dgdl/BSC034N03LS_rev1.2.pdf?folderId=db3a304313b8b5a60113cee8763b02d7&fileId=db3a30431ed1d7b2011f3ba01de246ef; ComponentLink3Description: Package Specification; ComponentLink3URL: http://www.infineon.com/cms/packages/SMD_-_Surface_Mounted_Devices/P-PG-TDSON/P-PG-TDSON-08-01x_2x_3.html?__locale=en
footprint INF-PG-TDSON-8-1_V (TDSON, 8-Leads, Body 6.15x5.15mm, Pitch 1.27mm)
pins: 1 SOURCE, 2 SOURCE, 3 SOURCE, 4 GATE, 5 DRAIN, 6 DRAIN, 7 DRAIN, 8 DRAIN
text: 5, 6, 7, 8; 1, 2, 3

## BSC034N06NS
designator Q?
N-Channel OptiMOS(TM) Power-Transistor, 60 V VDS, 100 A ID, -55 to 150 degC, PG-TDSON-8, Reel, Green; Manufacturer: Infineon; PartNumber: BSC034N06NS; Green: TRUE; ID (max): 100 A; IDpuls (max): 400 A; Polarity: N; Ptot (max): 74 W; QG: 33 nc; RDS (on) (max): 3.4 mOhm; RthJA (max): 50 K/W; RthJC (max): 1.7 K/W; VDS (max): 60 V; VGS(th) (max): 3.3 V; VGS(th) (min): 2.1 V; DatasheetVersion: Rev. 2.0; PackageVersion: Rev. 04, 04/2013; PackageReference: PG-TDSON-8-04; PackageDescription: 8-Pin Plastic (Green) Thin Dual Small Outline Non-Leaded Package, 5.9 x 5.15 mm Body, 1.27 mm Pitch; Supplier 1: Mouser; Supplier Part Number 1: N/A; Halogen-free: TRUE; Mounting: SMD; Packing: Reel; Technology: OptiMOS(TM); Mounting Technology: Surface Mount; ComponentLink1Description: Manufacturer URL; ComponentLink1URL: http://www.infineon.com/; ComponentLink2Description: Datasheet; ComponentLink2URL: http://www.infineon.com/dgdl/BSC034N06NS_Rev2.0.pdf?folderId=db3a304313b8b5a60113cee8763b02d7&fileId=db3a304342371bb001424c65286a70be; ComponentLink3Description: Package Specification; ComponentLink3URL: http://www.infineon.com/dgdl/BSC019N04LS_rev2.0.pdf?folderId=db3a304313b8b5a60113cee8763b02d7&fileId=db3a304342371bb001424b8aca0c6fc4
footprint INF-PG-TDSON-8-04_V (SON, 8-Leads, Body 5.9x5.15mm, Pitch 1.27mm)
pins: 1 SOURCE, 2 SOURCE, 3 SOURCE, 4 GATE, 5 DRAIN, 6 DRAIN, 7 DRAIN, 8 DRAIN
text: 5, 6, 7, 8; 1, 2, 3

## BSC035N04LS G
designator Q?
N-Channel OptiMOS 3 Power-Transistor, 40 V VDS, 100 A ID, -55 to 150 degC, PG-TDSON-8-1, Reel, Green; Manufacturer: Infineon; PartNumber: BSC035N04LS G; Green: TRUE; ID (max): 100 A; IDpuls (max): 400 A; Polarity: N; Ptot (max): 69 W; QG: 23 nC; RDS (on) (max): 3.5 mOhm; RDS (on) (max) (@4.5V): 5.3 mOhm; Rth: 1.8 K/W; RthJA (max): 50 K/W; VDS (max): 40 V; VGS(th) (max): 2 V; VGS(th) (min): 1.2 V; DatasheetVersion: Rev. 1.04; PackageReference: PG-TDSON-8-1; PackageDescription: 8-Pin Plastic (Green) Thin Dual Small Outline Non-Leaded Package, 5.15 x 5.9 mm Body, 1.27 mm Pitch; Supplier 1: Mouser; Supplier Part Number 1: 726-BSC035N04LSG; Supplier 2: Digi-Key; Supplier Part Number 2: BSC035N04LS GTR-ND; Supplier 3: Digi-Key; Supplier Part Number 3: BSC035N04LS GCT-ND; Supplier 4: Digi-Key; Supplier Part Number 4: BSC035N04LS GDKR-ND; Halogen-free: TRUE; Packing: Reel; RthJC (max): 1.8 K/W; Mounting Technology: Surface Mount; ComponentLink1Description: Manufacturer URL; ComponentLink1URL: http://www.infineon.com/; ComponentLink2Description: Datasheet; ComponentLink2URL: http://www.infineon.com/dgdl/BSC035N04LSG_rev14.pdf?folderId=db3a3043156fd5730115c7d50620107c&fileId=db3a30431689f4420116c4388f820817; ComponentLink3Description: Package Specification; ComponentLink3URL: http://www.infineon.com/cms/packages/SMD_-_Surface_Mounted_Devices/P-PG-TDSON/P-PG-TDSON-08-01x_2x_3.html?__locale=en
footprint INF-PG-TDSON-8-1_V (TDSON, 8-Leads, Body 6.15x5.15mm, Pitch 1.27mm)
pins: 1 SOURCE, 2 SOURCE, 3 SOURCE, 4 GATE, 5 DRAIN, 6 DRAIN, 7 DRAIN, 8 DRAIN
text: 5, 6, 7, 8; 1, 2, 3

## BSC036NE7NS3 G
designator Q?
N-Channel OptiMOS 3 Power-Transistor, 75 V VDS, 100 A ID, -55 to 150 degC, PG-TDSON-8-1, Reel, Green; Manufacturer: Infineon; PartNumber: BSC036NE7NS3 G; Green: TRUE; ID (max): 100 A; IDpuls (max): 400 A; Polarity: N; Ptot (max): 156 W; QG: 63.4 nC; RDS (on) (max): 3.6 mOhm; Rth: 0.8 K/W; RthJA (max): 62 K/W; VDS (max): 75 V; VGS(th) (max): 3.8 V; VGS(th) (min): 2.3 V; DatasheetVersion: Rev. 2.0; PackageReference: PG-TDSON-8-1; PackageDescription: 8-Pin Plastic (Green) Thin Dual Small Outline Non-Leaded Package, 5.15 x 5.9 mm Body, 1.27 mm Pitch; Halogen-free: TRUE; Packing: Reel; RthJC (max): 0.8 K/W; Mounting Technology: Surface Mount; ComponentLink1Description: Manufacturer URL; ComponentLink1URL: http://www.infineon.com/; ComponentLink2Description: Datasheet; ComponentLink2URL: http://www.infineon.com/dgdl/BSC036NE7NS3G_Rev2+0.pdf?folderId=db3a304313b8b5a60113cee8763b02d7&fileId=db3a304332fc1ee7013316e0d2607105; ComponentLink3Description: Package Specification; ComponentLink3URL: http://www.infineon.com/cms/packages/SMD_-_Surface_Mounted_Devices/P-PG-TDSON/P-PG-TDSON-08-01x_2x_3.html?__locale=en
footprint INF-PG-TDSON-8-1_V (TDSON, 8-Leads, Body 6.15x5.15mm, Pitch 1.27mm)
pins: 1 SOURCE, 2 SOURCE, 3 SOURCE, 4 GATE, 5 DRAIN, 6 DRAIN, 7 DRAIN, 8 DRAIN
text: 5, 6, 7, 8; 1, 2, 3

## BSC039N06NS
designator Q?
N-Channel OptiMOS Power-Transistor, 60 V VDS, 100 A ID, -55 to 150 degC, PG-TDSON-8-1, Reel, Green; Manufacturer: Infineon; PartNumber: BSC039N06NS; Green: TRUE; ID (max): 100 A; IDpuls (max): 400 A; Polarity: N; Ptot (max): 69 W; QG: 27 nC; RDS (on) (max): 3.9 mOhm; Rth: 1.8 K/W; RthJA (max): 50 K/W; VDS (max): 60 V; VGS(th) (max): 3.3 V; VGS(th) (min): 2.1 V; DatasheetVersion: Rev. 2.1; PackageReference: PG-TDSON-8-1; PackageDescription: 8-Pin Plastic (Green) Thin Dual Small Outline Non-Leaded Package, 5.15 x 5.9 mm Body, 1.27 mm Pitch; Supplier 1: Digi-Key; Supplier Part Number 1: BSC039N06NSTR-ND; Supplier 2: Digi-Key; Supplier Part Number 2: BSC039N06NSCT-ND; Supplier 3: Digi-Key; Supplier Part Number 3: BSC039N06NSDKR-ND; Halogen-free: TRUE; Packing: Reel; RthJC (max): 1.8 K/W; Mounting Technology: Surface Mount; ComponentLink1Description: Manufacturer URL; ComponentLink1URL: http://www.infineon.com/; ComponentLink2Description: Datasheet; ComponentLink2URL: http://www.infineon.com/dgdl/BSC039N06NS_Rev2.1.pdf?folderId=db3a304313b8b5a60113cee8763b02d7&fileId=db3a30433727a44301372c3adce949c7; ComponentLink3Description: Package Specification; ComponentLink3URL: http://www.infineon.com/cms/packages/SMD_-_Surface_Mounted_Devices/P-PG-TDSON/P-PG-TDSON-08-01x_2x_3.html?__locale=en
footprint INF-PG-TDSON-8-1_V (TDSON, 8-Leads, Body 6.15x5.15mm, Pitch 1.27mm)
pins: 1 SOURCE, 2 SOURCE, 3 SOURCE, 4 GATE, 5 DRAIN, 6 DRAIN, 7 DRAIN, 8 DRAIN
text: 5, 6, 7, 8; 1, 2, 3

## BSC042N03LS G
designator Q?
N-Channel OptiMOS 3 Power-MOSFET, 30 V VDS, 93 A ID, -55 to 150 degC, PG-TDSON-8-1, Reel, Green; Manufacturer: Infineon; PartNumber: BSC042N03LS G; Green: TRUE; ID (max): 93 A; IDpuls (max): 372 A; Polarity: N; Ptot (max): 57 W; QG: 15 nC; RDS (on) (max): 4.2 mOhm; RDS (on) (max) (@4.5V): 6.5 mOhm; Rth: 2.2 K/W; RthJA (max): 50 K/W; VDS (max): 30 V; VGS(th) (max): 2.2 V; VGS(th) (min): 1 V; DatasheetVersion: Rev. 1.25; PackageReference: PG-TDSON-8-1; PackageDescription: 8-Pin Plastic (Green) Thin Dual Small Outline Non-Leaded Package, 5.15 x 5.9 mm Body, 1.27 mm Pitch; Supplier 1: Mouser; Supplier Part Number 1: 726-BSC042N03LSG; Supplier 2: Newark; Supplier Part Number 2: 60R2489; Supplier 3: Farnell; Supplier Part Number 3: 1775440; Supplier 4: Digi-Key; Supplier Part Number 4: BSC042N03LSGINTR-ND; Supplier 5: Digi-Key; Supplier Part Number 5: BSC042N03LSGINCT-ND; Supplier 6: Digi-Key; Supplier Part Number 6: BSC042N03LSGINDKR-ND; Halogen-free: TRUE; Packing: Reel; RthJC (max): 2.2 K/W; Mounting Technology: Surface Mount; ComponentLink1Description: Manufacturer URL; ComponentLink1URL: http://www.infineon.com/; ComponentLink2Description: Datasheet; ComponentLink2URL: http://www.infineon.com/dgdl/BSC042N03LS_rev1.25.pdf?folderId=db3a304313b8b5a60113cee8763b02d7&fileId=db3a304319c6f18c0119e17c202f5ff7; ComponentLink3Description: Package Specification; ComponentLink3URL: http://www.infineon.com/cms/packages/SMD_-_Surface_Mounted_Devices/P-PG-TDSON/P-PG-TDSON-08-01x_2x_3.html?__locale=en
footprint INF-PG-TDSON-8-1_V (TDSON, 8-Leads, Body 6.15x5.15mm, Pitch 1.27mm)
pins: 1 SOURCE, 2 SOURCE, 3 SOURCE, 4 GATE, 5 DRAIN, 6 DRAIN, 7 DRAIN, 8 DRAIN
text: 5, 6, 7, 8; 1, 2, 3

## BSC042N03MS G
designator Q?
N-Channel OptiMOS 3 Power-MOSFET, 30 V VDS, 93 A ID, -55 to 150 degC, PG-TDSON-8-1, Reel, Green; Manufacturer: Infineon; PartNumber: BSC042N03MS G; Green: TRUE; ID (max): 93 A; IDpuls (max): 372 A; Polarity: N; Ptot (max): 57 W; QG: 20 nC; RDS (on) (max): 4.2 mOhm; RDS (on) (max) (@4.5V): 5.4 mOhm; Rth: 2.2 K/W; RthJA (max): 50 K/W; VDS (max): 30 V; VGS(th) (max): 2 V; VGS(th) (min): 1 V; DatasheetVersion: Rev. 2.0; PackageReference: PG-TDSON-8-1; PackageDescription: 8-Pin Plastic (Green) Thin Dual Small Outline Non-Leaded Package, 5.15 x 5.9 mm Body, 1.27 mm Pitch; Supplier 1: Mouser; Supplier Part Number 1: 726-BSC042N03MSG; Supplier 2: Digi-Key; Supplier Part Number 2: BSC042N03MSGINTR-ND; Supplier 3: Digi-Key; Supplier Part Number 3: BSC042N03MSGINCT-ND; Supplier 4: Digi-Key; Supplier Part Number 4: BSC042N03MSGINDKR-ND; Halogen-free: TRUE; Packing: Reel; RthJC (max): 2.2 K/W; Mounting Technology: Surface Mount; ComponentLink1Description: Manufacturer URL; ComponentLink1URL: http://www.infineon.com/; ComponentLink2Description: Datasheet; ComponentLink2URL: http://www.infineon.com/dgdl/BSC042N03MSG_rev2._pdf.pdf?folderId=db3a304313d846880113d91d60c500c4&fileId=db3a304313d846880113de62ba090366; ComponentLink3Description: Package Specification; ComponentLink3URL: http://www.infineon.com/cms/packages/SMD_-_Surface_Mounted_Devices/P-PG-TDSON/P-PG-TDSON-08-01x_2x_3.html?__locale=en
footprint INF-PG-TDSON-8-1_V (TDSON, 8-Leads, Body 6.15x5.15mm, Pitch 1.27mm)
pins: 1 SOURCE, 2 SOURCE, 3 SOURCE, 4 GATE, 5 DRAIN, 6 DRAIN, 7 DRAIN, 8 DRAIN
text: 5, 6, 7, 8; 1, 2, 3

## BSC042NE7NS3 G
designator Q?
N-Channel OptiMOS 3 Power-Transistor, 75 V VDS, 100 A ID, -55 to 150 degC, PG-TDSON-8-1, Reel, Green; Manufacturer: Infineon; PartNumber: BSC042NE7NS3 G; Green: TRUE; ID (max): 100 A; IDpuls (max): 400 A; Polarity: N; Ptot (max): 125 W; QG: 52 nC; RDS (on) (max): 4.2 mOhm; Rth: 1 K/W; RthJA (max): 62 K/W; VDS (max): 75 V; VGS(th) (max): 3.8 V; VGS(th) (min): 2.3 V; DatasheetVersion: Rev. 2.21; PackageReference: PG-TDSON-8-1; PackageDescription: 8-Pin Plastic (Green) Thin Dual Small Outline Non-Leaded Package, 5.15 x 5.9 mm Body, 1.27 mm Pitch; Supplier 1: Mouser; Supplier Part Number 1: 726-BSC042NE7NS3GXT; Supplier 2: Newark; Supplier Part Number 2: 79X1331; Supplier 3: Farnell; Supplier Part Number 3: 2432706; Supplier 4: Digi-Key; Supplier Part Number 4: BSC042NE7NS3 GTR-ND; Supplier 5: Digi-Key; Supplier Part Number 5: BSC042NE7NS3 GCT-ND; Supplier 6: Digi-Key; Supplier Part Number 6: BSC042NE7NS3 GDKR-ND; Halogen-free: TRUE; Packing: Reel; RthJC (max): 1 K/W; Mounting Technology: Surface Mount; ComponentLink1Description: Manufacturer URL; ComponentLink1URL: http://www.infineon.com/; ComponentLink2Description: Datasheet; ComponentLink2URL: http://www.infineon.com/dgdl/BSC042NE7NS3G_Rev2.21.pdf?folderId=db3a304313b8b5a60113cee8763b02d7&fileId=db3a304320d39d590121a5f8baf30c25; ComponentLink3Description: Package Specification; ComponentLink3URL: http://www.infineon.com/cms/packages/SMD_-_Surface_Mounted_Devices/P-PG-TDSON/P-PG-TDSON-08-01x_2x_3.html?__locale=en
footprint INF-PG-TDSON-8-1_V (TDSON, 8-Leads, Body 6.15x5.15mm, Pitch 1.27mm)
pins: 1 SOURCE, 2 SOURCE, 3 SOURCE, 4 GATE, 5 DRAIN, 6 DRAIN, 7 DRAIN, 8 DRAIN
text: 5, 6, 7, 8; 1, 2, 3